# Altium footprint library AC1005.PcbLib: 1 footprints
Each footprint in its own frame and in the unit in brackets; x right, y up, seen from the top. Pads: shape width x height; smd on the part's side, far side on the other; paste and mask are expansions set on the pad; w line width, h text height; cw(c..) or ccw(c..) is an arc to the next point about the centre after c.
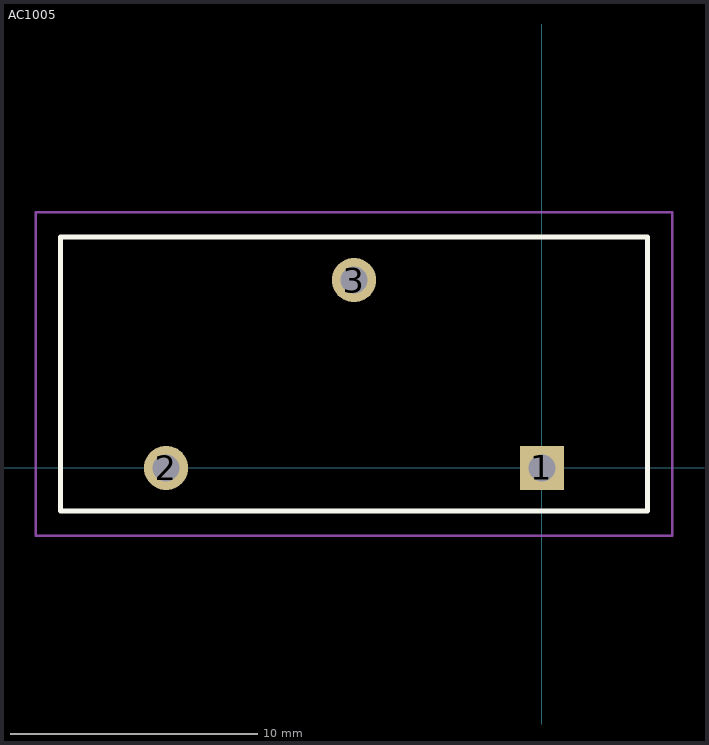
[diagram p0: the footprint, top view; thin cyan lines are the x and y axes]

## AC1005 [mm]
pads (3):
  rect 1.8x1.8 hole 1.1: 1(0,0)
  round 1.8 hole 1.1: 2(-15.24,0) 3(-7.62,7.62)
Top Overlay:
  lines w0.2: -19.52,-1.75 -19.52,9.37 4.28,9.37 4.28,-1.75 -19.52,-1.75
Mechanical 15:
  lines w0.1: -20.52,-2.75 -20.52,10.37 5.28,10.37 5.28,-2.75 -20.52,-2.75
Mechanical 16:
  lines w0.1: -19.52,-1.75 -19.52,9.37 4.28,9.37 4.28,-1.75 -19.52,-1.75
3D body "AC1005_AC1010_AC1015_AC1020.step": height 24.3, standoff -4.5, extent -19.52,-1.75 4.28,9.37